# Altium footprint library SAMTEC_HMTSW-102-X-X-S-X.PcbLib: 1 footprints
Each footprint in its own frame and in the unit in brackets; x right, y up, seen from the top. Pads: shape width x height; smd on the part's side, far side on the other; paste and mask are expansions set on the pad; w line width, h text height; cw(c..) or ccw(c..) is an arc to the next point about the centre after c.
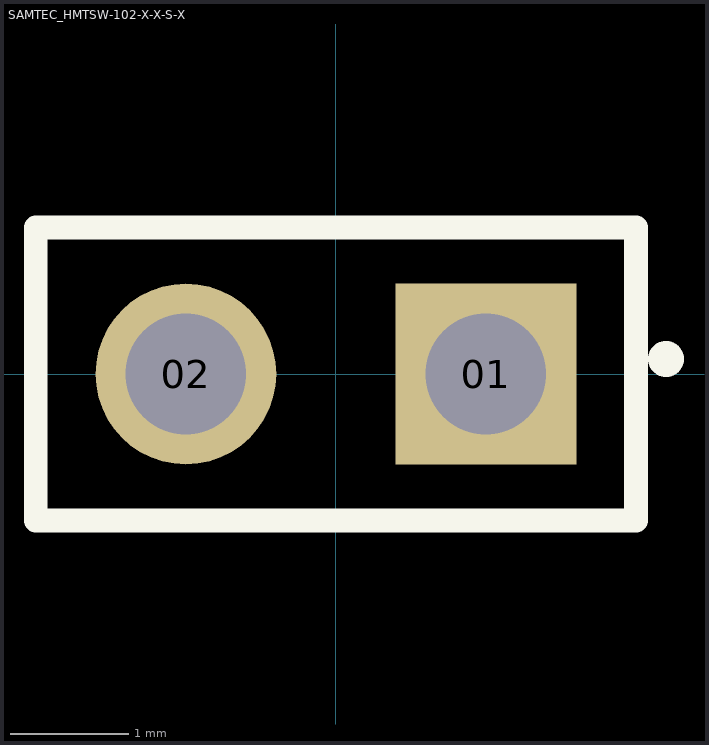
[diagram p0: the footprint, top view; thin cyan lines are the x and y axes]

## SAMTEC_HMTSW-102-X-X-S-X [mm]
pads (2):
  rect 1.53x1.53 / inner round 1.53 / far side rect 1.53x1.53 hole 1.02: 01(1.27,0)
  round 1.53 hole 1.02: 02(-1.27,0)
Top Overlay:
  circle w0.2: c2.794,0.127 r0.052
  lines w0.2: -2.54,-1.24 2.54,-1.24 2.54,1.24 -2.54,1.24 -2.54,-1.24
Mechanical 13:
  lines w0.1: -2.54,-1.24 -2.54,1.24 2.54,1.24 2.54,-1.24 -2.54,-1.24
3D body "MTLW-102-07-T-S-205.stp": height 6.73, standoff -4.19, extent -2.54,-1.346 2.54,1.143